# Altium schematic symbol library 06033C103JAT4A.SchLib: 1 symbol
Pins are listed as number, name and electrical type; pins without a type are passive.

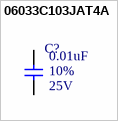
[diagram p0: symbol 06033C103JAT4A]

## 06033C103JAT4A
designator C?  Rated Voltage: 25V  Tolerance: 10%  Capacitence: 0.01uF  (hidden comment: 06033C103JAT4A)
CAP CER 10000PF 25V X7R 0603; MFR: AVX Corporation; PN: *; ComponentLink1Description: Datasheet; ComponentLink1URL: www.google.com; Temperature Coefficient: X7R; Package: 0603; Footprint: C0603; Supplier 1: Mouser; Supplier Part Number 1: 581-06033C103JAT4A
footprint C0603 (Generic C0603 Footprint)
pins: 1, 2